# EAGLE library part SD_BOARD (library SdBoard)
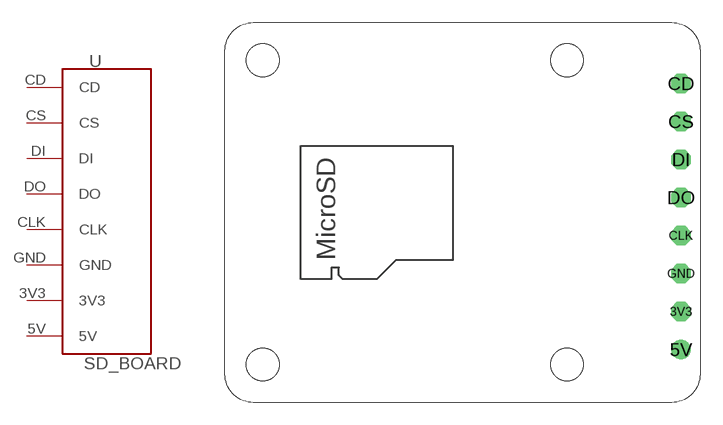
[diagram p0: symbol with the pads of SD_BOARD; footprint SD_BOARD]

Designator prefix -

## SD_BOARD  [SD_BOARD]
3V3  3V3
5V  5V
CD  CD
CLK  CLK
CS  CS
DI  DI
DO  DO
GND  GND

## Footprint SD_BOARD (pad centres in mm)
drill 0.8 octagon: 3V3 30.861,6.35; CD 30.861,21.59; CLK 30.861,11.43; CS 30.861,19.05; DI 30.861,16.51; DO 30.861,13.97; GND 30.861,8.89
drill 0.8: 5V 30.861,3.81
hole 2.2 at 2.921,23.139
hole 2.2 at 2.921,2.819
hole 2.2 at 23.241,23.139
hole 2.2 at 23.241,2.819